# EAGLE library part SPARKFUN-VENUS-GPS (library rover12)
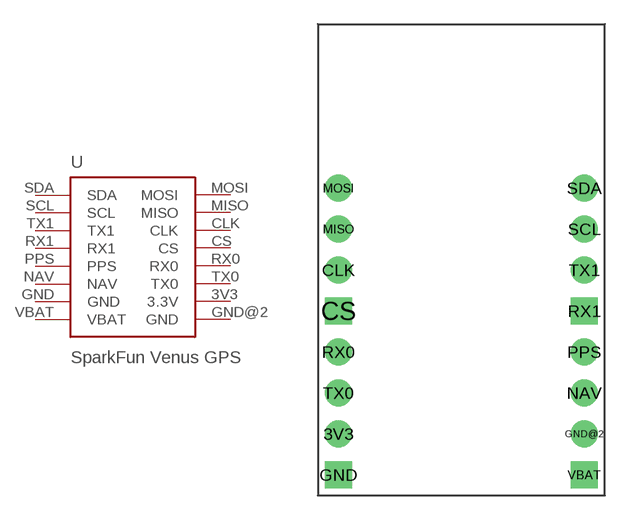
[diagram p4: symbol with the pads of SPARKFUN-VENUS-GPS; footprint SPARKFUN-VENUS-GPS]

Designator prefix U

## SPARKFUN-VENUS-GPS  [SPARKFUN-VENUS-GPS]
3V3  3.3V  pwr
CLK  CLK
CS  CS
GND  GND  pwr
GND@2  GND  pwr
MISO  MISO
MOSI  MOSI
NAV  NAV
PPS  PPS
RX0  RX0
RX1  RX1
SCL  SCL
SDA  SDA
TX0  TX0
TX1  TX1
VBAT  VBAT  pwr

## Footprint SPARKFUN-VENUS-GPS (pad centres in mm)
drill 1.016 pad 1.676: 3V3 0,2.54; CLK 0,12.7; GND@2 15.24,2.54; MISO 0,15.24; MOSI 0,17.78; NAV 15.24,5.08; PPS 15.24,7.62; RX0 0,7.62; SCL 15.24,15.24; SDA 15.24,17.78; TX0 0,5.08; TX1 15.24,12.7
drill 1.016 pad 1.676 square: CS 0,10.16; GND 0,0; RX1 15.24,10.16; VBAT 15.24,0